# Altium footprint library PCB_Display.PcbLib: 1 footprints
Each footprint in its own frame and in the unit in brackets; x right, y up, seen from the top. Pads: shape width x height; smd on the part's side, far side on the other; paste and mask are expansions set on the pad; w line width, h text height; cw(c..) or ccw(c..) is an arc to the next point about the centre after c.
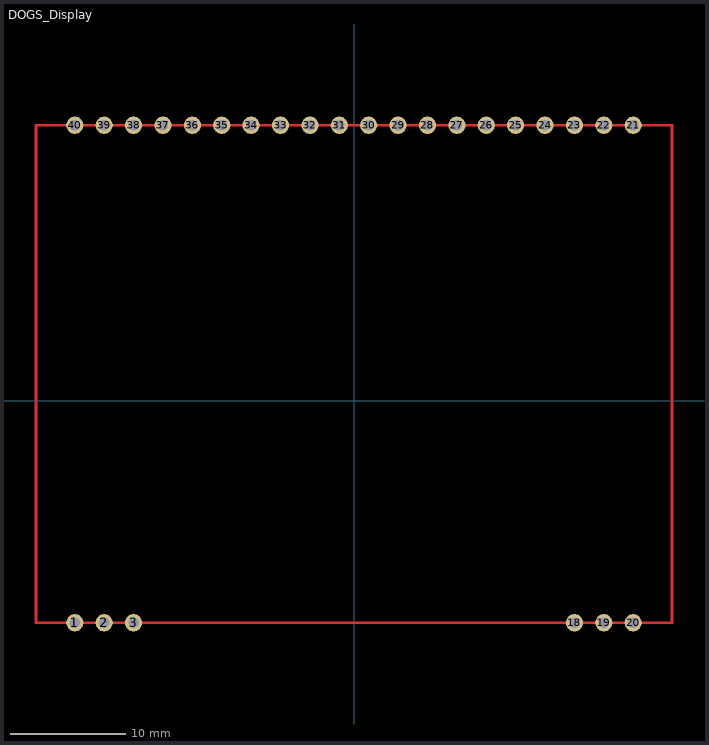
[diagram p0: the footprint, top view; thin cyan lines are the x and y axes]

## DOGS_Display [mm] "Footprint del Display DOGS128x6"
pads (26):
  round 1.5 hole 0.9: 1(-24.13,-19.2) 2(-21.59,-19.2) 3(-19.05,-19.2) 18(19.05,-19.2) 19(21.59,-19.2) 20(24.13,-19.2) 21(24.13,23.8) 22(21.59,23.8) 23(19.05,23.8) 24(16.51,23.8) 25(13.97,23.8) 26(11.43,23.8) 27(8.89,23.8) 28(6.35,23.8) 29(3.81,23.8) 30(1.27,23.8) 31(-1.27,23.8) 32(-3.81,23.8) 33(-6.35,23.8) 34(-8.89,23.8) 35(-11.43,23.8) 36(-13.97,23.8) 37(-16.51,23.8) 38(-19.05,23.8) 39(-21.59,23.8) 40(-24.13,23.8)
Top Layer:
  lines w0.254: -27.5,-19.2 -27.5,23.8 27.5,23.8 27.5,-19.2 -27.5,-19.2